# Altium schematic symbol library CL10B102KB8NFNC.SchLib: 2 symbols
Pins are listed as number, name and electrical type; pins without a type are passive.

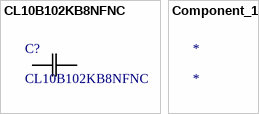
[diagram p0: symbols CL10B102KB8NFNC to Component_1]

## CL10B102KB8NFNC
designator C?
No Description Available; Mfr_Name: Samsung; Type: DEV; Copyright: Copyright (C) 2023 Ultra Librarian. All rights reserved.; Manufacturer_Part_Number: CL10B102KB8NFNC; Digi-Key_Part_Number_1: 1276-1914-2-ND; Digi-Key_Part_Number_2: 1276-1914-1-ND; Digi-Key_Part_Number_3: 1276-1914-6-ND; RefDes: RefDes
footprint CAP_CL10_SAM
pins: 1, 2

## Component_1
designator *